# Altium footprint library con-wenzhou-yihua.PCBLIB: 1 footprints
Each footprint in its own frame and in the unit in brackets; x right, y up, seen from the top. Pads: shape width x height; smd on the part's side, far side on the other; paste and mask are expansions set on the pad; w line width, h text height; cw(c..) or ccw(c..) is an arc to the next point about the centre after c.
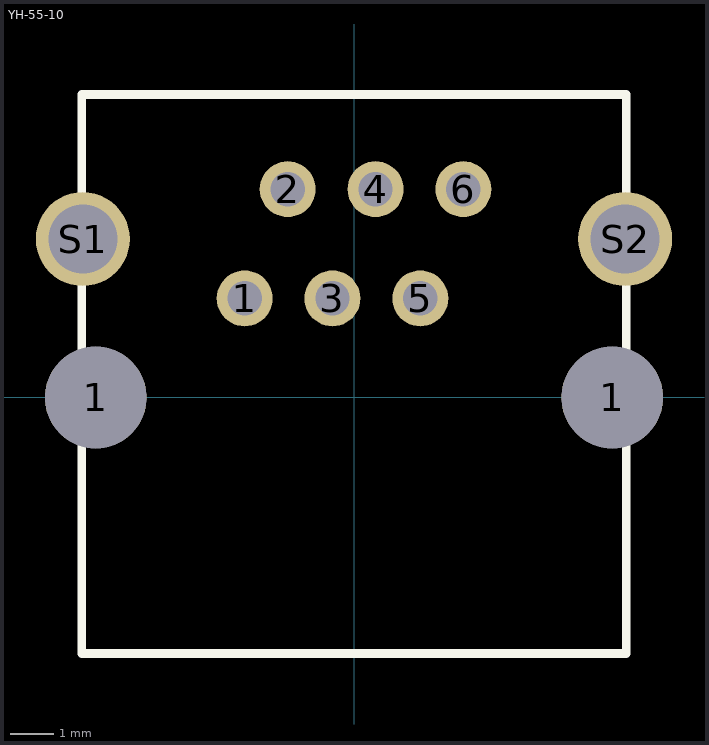
[diagram p0: the footprint, top view; thin cyan lines are the x and y axes]

## YH-55-10 [mil]
pads (10):
  round 92.91 hole 92.91: 1(-236.22,0) 1(236.22,0)
  round 51.18 hole 31.5: 1(-100,90.55) 2(-60.63,190.55) 3(-19.69,90.55) 4(19.69,190.55) 5(60.63,90.55) 6(100,190.55)
  round 86 hole 62.99: S1(-248.03,144.88) S2(248.03,144.88)
Top Overlay:
  lines w8: 249.02,29.53 cw(c236.74,0) 249.02,-29.53 ; -249.02,-29.53 -249.02,-234.25 249.02,-234.25 249.02,-29.53 ; -249.02,-29.53 -249.02,29.53 ; -249.02,-29.53 cw(c-236.74,0) -249.02,29.53 ; -249.02,29.53 -249.02,277.17 249.02,277.17 249.02,-29.53